# Altium footprint library VapeixS_LIB.PcbLib: 46 footprints (part 1 of 3)
Each footprint in its own frame and in the unit in brackets; x right, y up, seen from the top. Pads: shape width x height; smd on the part's side, far side on the other; paste and mask are expansions set on the pad; w line width, h text height; cw(c..) or ccw(c..) is an arc to the next point about the centre after c.
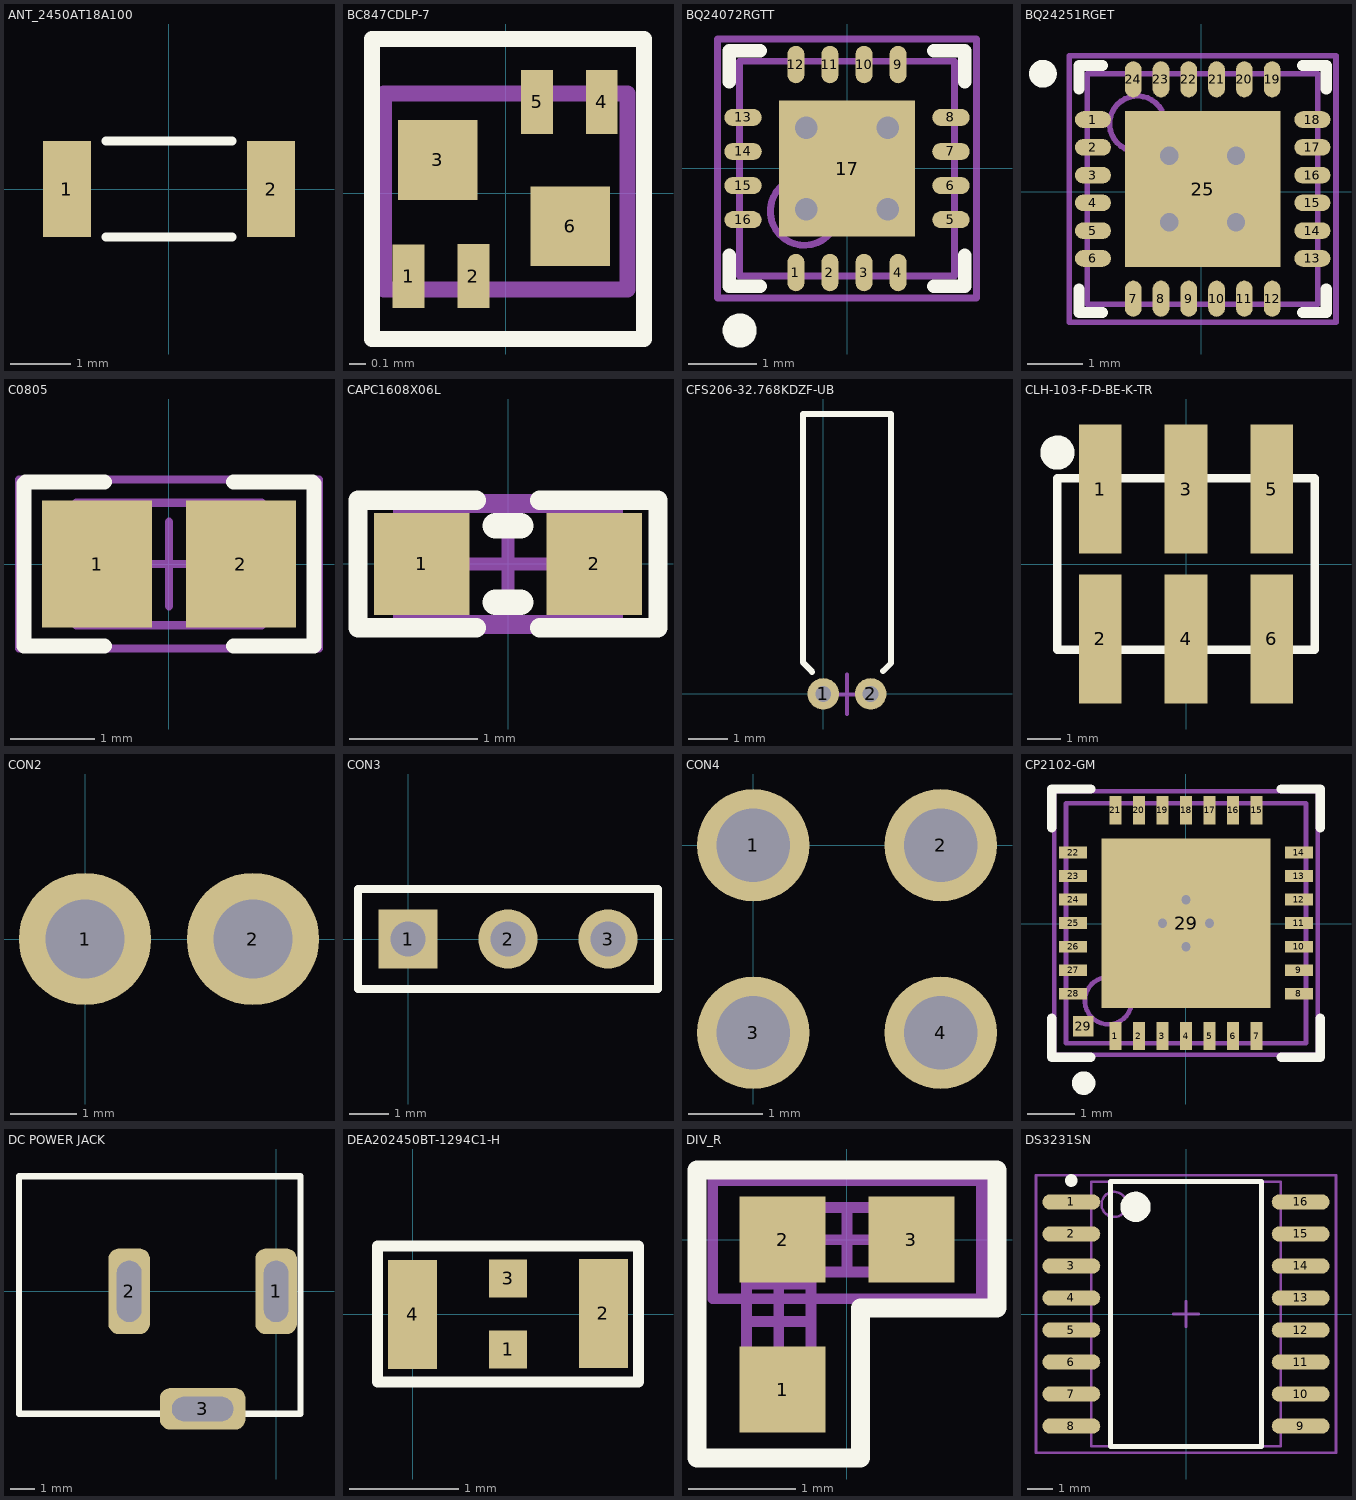
[diagram p0: the footprints below, top view; thin cyan lines are the x and y axes]

## ANT_2450AT18A100 [mm] "Mini 2.45 GHz Antenna"
pads (2):
  rect 0.8x1.6 smd paste+0 mask+0: 1(-1.7,0) 2(1.7,0)
Top Overlay:
  lines w0.15: -1.05,-0.8 1.05,-0.8 ; -1.05,0.8 1.05,0.8
3D body "User Library-2450AT18A100E.STEP": height 1.35, standoff -0.05, extent -1.65,-0.85 1.65,0.85

## BC847CDLP-7 [mm] "TRANS 2NPN 45V 0.1A 6DFN"
pads (6):
  rect 0.2x0.4 smd: 1(-0.609,-0.521) 2(-0.203,-0.521) 4(0.6,0.572) 5(0.196,0.572)
  rect 0.5x0.5 smd: 3(-0.426,0.208) 6(0.404,-0.208)
Top Overlay:
  lines w0.1: 0.859,0.965 -0.838,0.965 -0.838,-0.914 0.864,-0.914 ; 0.865,-0.914 0.865,0.965
Mechanical 15:
  lines w0.1: -0.763,-0.605 -0.763,0.622 0.761,0.622 0.761,-0.605 -0.763,-0.605
3D body: height 0.15, standoff 0.08, extent -0.681,0.573 -0.493,0.686
3D body: height 0.15, standoff 0.08, extent -0.366,0.573 -0.178,0.685
3D body: height 0.15, standoff 0.08, extent 0.465,-0.672 0.653,-0.56
3D body: height 0.15, standoff 0.08, extent 0.151,-0.672 0.339,-0.559
3D body: height 0.13, standoff 0, extent 0.501,0.61 0.701,0.691
3D body: height 0.13, standoff 0, extent 0.096,0.609 0.296,0.69
3D body: height 0.13, standoff 0, extent -0.303,-0.67 -0.103,-0.588
3D body: height 0.13, standoff 0, extent -0.709,-0.668 -0.509,-0.586
3D body: height 0.4, standoff 0, extent -0.787,-0.652 0.813,0.672

## BQ24072RGTT [mm] "TEXAS INSTRUMENTS - BQ24072RGTT - BATTERY CHARGER LI-ION, 1.5A, QFN-16"
pads (17):
  oval 0.25x0.55 smd: 1(-0.757,-1.527) 2(-0.257,-1.527) 3(0.243,-1.527) 4(0.743,-1.527) 9(0.743,1.523) 10(0.243,1.523) 11(-0.257,1.523) 12(-0.757,1.523)
  oval 0.55x0.25 smd: 5(1.518,-0.752) 6(1.518,-0.252) 7(1.518,0.248) 8(1.518,0.748) 13(-1.532,0.748) 14(-1.532,0.248) 15(-1.532,-0.252) 16(-1.532,-0.752)
  rect 2x2 smd: 17(-0.007,-0.002)
via 0.593,0.598 diameter 0.66 hole 0.33
via 0.593,-0.602 diameter 0.66 hole 0.33
via -0.607,0.598 diameter 0.66 hole 0.33
via -0.607,-0.602 diameter 0.66 hole 0.33
Top Overlay:
  circle w0.25: c-1.582,-2.377 r0.125
  lines w0.2: -1.732,-1.277 -1.732,-1.727 -1.282,-1.727 ; -1.732,1.273 -1.732,1.723 -1.282,1.723 ; 1.268,-1.727 1.718,-1.727 1.718,-1.277 ; 1.268,1.723 1.718,1.723 1.718,1.273
Mechanical 13:
  circle w0.1: c-0.632,-0.627 r0.5
  lines w0.1: -1.582,-1.577 -1.582,1.573 1.568,1.573 1.568,-1.577 -1.582,-1.577
Mechanical 15:
  lines w0.1: -0.507,-0.002 0.493,-0.002 ; -0.007,-0.502 -0.007,0.498 ; -1.907,-1.902 -1.907,1.898 1.893,1.898 1.893,-1.902 -1.907,-1.902
3D body "User Library-QFN-16.STEP": height 0.9, standoff 0, extent -1.51,-1.502 1.492,1.5

## BQ24251RGET [mm] "TEXAS INSTRUMENTS - BQ24251RGET - IC, BATT CHARGER, LI-ION, 2A, VQFN-24"
pads (25):
  oval 0.65x0.3 smd: 1(-1.947,1.299) 2(-1.947,0.799) 3(-1.947,0.299) 4(-1.947,-0.201) 5(-1.947,-0.701) 6(-1.947,-1.201) 13(2.003,-1.201) 14(2.003,-0.701) 15(2.003,-0.201) 16(2.003,0.299) 17(2.003,0.799) 18(2.003,1.299)
  oval 0.3x0.65 smd: 7(-1.222,-1.926) 8(-0.722,-1.926) 9(-0.222,-1.926) 10(0.278,-1.926) 11(0.778,-1.926) 12(1.278,-1.926) 19(1.278,2.024) 20(0.778,2.024) 21(0.278,2.024) 22(-0.222,2.024) 23(-0.722,2.024) 24(-1.222,2.024)
  rect 2.8x2.8 smd: 25(0.028,0.049)
via 0.628,-0.551 diameter 0.66 hole 0.33
via -0.572,-0.551 diameter 0.66 hole 0.33
via 0.628,0.649 diameter 0.66 hole 0.33
via -0.572,0.649 diameter 0.66 hole 0.33
Top Overlay:
  circle w0.25: c-2.847,2.124 r0.125
  lines w0.2: -2.197,-1.751 -2.197,-2.176 -1.772,-2.176 ; -2.197,1.849 -2.197,2.274 -1.772,2.274 ; 1.828,-2.176 2.253,-2.176 2.253,-1.751 ; 1.828,2.274 2.253,2.274 2.253,1.849
Mechanical 13:
  circle w0.1: c-1.147,1.224 r0.5
  lines w0.1: -2.047,-2.026 2.103,-2.026 2.103,2.124 -2.047,2.124 -2.047,-2.026
Mechanical 15:
  lines w0.1: -0.472,0.049 0.528,0.049 ; 0.028,-0.451 0.028,0.549 ; -2.372,-2.351 2.428,-2.351 2.428,2.449 -2.372,2.449 -2.372,-2.351
3D body "User Library-QFN 24 4x4.STEP": height 0.9, standoff 0, extent -1.974,-1.953 2.03,2.051

## C0805 [mm]
pads (2):
  rect 1.3x1.5 smd: 1(-0.85,0) 2(0.85,0)
Top Overlay:
  lines w0.178: -0.762,-0.968 -1.717,-0.968 -1.717,0.95 -1.699,0.968 -0.762,0.968 ; 0.762,-0.968 1.717,-0.968 1.717,0.95 1.699,0.968 0.762,0.968
Mechanical 5:
  lines w0.1: -1.775,-1 -1.775,1 1.775,1 1.775,-1 -1.775,-1
Mechanical 13:
  lines w0.1: -0.65,-0.725 -0.65,0.725 ; 0.65,-0.725 0.65,0.725 ; -1.1,-0.725 -1.1,0.725 1.1,0.725 1.1,-0.725 -1.1,-0.725
Mechanical 15:
  lines w0.1: -0.5,0 0.5,0 ; 0,-0.5 0,0.5 ; -1.775,-1 -1.775,1 1.775,1 1.775,-1 -1.775,-1
3D body "SW3dPS-0805 SMD Capacitor.STEP": height 0.78, standoff 0, extent -0.95,-0.625 1.05,0.625

## CAPC1608X06L [mm]
pads (2):
  rect 0.75x0.8 smd: 1(-0.675,0) 2(0.675,0)
Top Overlay:
  lines w0.152: -0.25,-0.5 -1.175,-0.5 -1.175,0.5 -0.25,0.5 ; 0.25,-0.5 1.175,-0.5 1.175,0.5 0.25,0.5
  lines w0.2: -0.1,-0.3 0.1,-0.3 ; -0.1,0.3 0.1,0.3
Mechanical 13:
  lines w0.1: -0.85,-0.45 -0.85,0.45 0.85,0.45 0.85,-0.45 -0.85,-0.45
Mechanical 15:
  lines w0.1: -0.45,0 0.45,0 ; 0,-0.45 0,0.45 ; -1.175,-0.5 1.175,-0.5 1.175,0.5 -1.175,0.5 -1.175,-0.5
3D body "User Library-Chip Capacitor 0603.step": height 0.8, standoff 0, extent -0.8,-0.43 0.8,0.43

## CFS206-32.768KDZF-UB [mm] "Crystals 32.768 KHz 12.5pF CYLINDER CRYSTAL"
pads (2):
  round 0.8 hole 0.4: 1(0,0) 2(1.2,0)
Top Overlay:
  lines w0.15: -0.282,0.56 -0.52,0.799 -0.52,7.1 1.722,7.1 1.722,0.785 1.519,0.582
Mechanical 15:
  lines w0.1: 0.1,-0.01 1.1,-0.01 ; 0.6,-0.51 0.6,0.49
3D body "User Library-DT-26-1.STEP": height 2, standoff -2, extent -0.4,-0.16 1.6,6.98

## CLH-103-F-D-BE-K-TR [mm] "SAMTEC - CLH-103-F-D-BE-K-TR - SOCKET, 2.54MM, SMT, 6WAY"
pads (6):
  rect 1.27x3.81 smd: 1(-2.54,2.234) 2(-2.54,-2.211) 3(0,2.234) 4(0,-2.211) 5(2.54,2.234) 6(2.54,-2.211)
Top Overlay:
  circle w0.508: c-3.81,3.314 r0.254
  lines w0.254: -3.81,-2.528 -3.81,2.552 3.81,2.552 3.81,-2.528 -3.81,-2.528
3D body "User Library-CLH-107-F-D-BE 2x3.STEP": height 3.56, standoff -0.05, extent -3.81,-3.543 3.81,3.567

## CON2 [mm]
pads (2):
  round 2 hole 1.2: 1(0,0) 2(2.54,0)

## CON3 [mm]
pads (3):
  rect 1.5x1.5 hole 0.9: 1(0,0)
  round 1.5 hole 0.9: 2(2.54,0) 3(5.08,0)
Top Overlay:
  lines w0.2: -1.27,-1.27 6.35,-1.27 6.35,1.27 -1.27,1.27 -1.27,-1.27
3D body "User Library-Header_Male_3Pin.STEP": height 8.54, standoff -3, extent -1.27,-1.245 6.35,1.245

## CON4 [mil]
pads (4):
  round 60 hole 39.37: 1(0,0) 2(100,0) 3(0,-100) 4(100,-100)

## CP2102-GM [mm] "SILICON LABS - CP2102-GM - USB-TO-UART BRIDGE, 3.6V, MLP-28"
pads (30):
  rect 0.25x0.6 smd paste-0.125 mask+0.051: 1(-1.496,-2.385) 2(-0.996,-2.385) 3(-0.496,-2.385) 4(0.004,-2.385) 5(0.504,-2.385) 6(1.004,-2.385) 7(1.504,-2.385) 15(1.504,2.415) 16(1.004,2.415) 17(0.504,2.415) 18(0.004,2.415) 19(-0.496,2.415) 20(-0.996,2.415) 21(-1.496,2.415)
  rect 0.6x0.25 smd paste-0.125 mask+0.051: 8(2.404,-1.485) 9(2.404,-0.985) 10(2.404,-0.485) 11(2.404,0.015) 12(2.404,0.515) 13(2.404,1.015) 14(2.404,1.515) 22(-2.396,1.515) 23(-2.396,1.015) 24(-2.396,0.515) 25(-2.396,0.015) 26(-2.396,-0.485) 27(-2.396,-0.985) 28(-2.396,-1.485)
  rect 0.435x0.435 smd paste-0.125 mask+0.051: 29(-2.18,-2.18)
  rect 3.6x3.6 smd paste-1.8 mask+0.051: 29(0.004,0.015)
via -0.496,0.015 diameter 0.5 hole 0.2
via 0.504,0.015 diameter 0.5 hole 0.2
via 0.004,0.515 diameter 0.5 hole 0.2
via 0.004,-0.485 diameter 0.5 hole 0.2
Top Overlay:
  circle w0.25: c-2.171,-3.385 r0.125
  lines w0.2: -2.846,-2.01 -2.846,-2.835 -2.021,-2.835 ; -2.846,2.04 -2.846,2.865 -2.021,2.865 ; 2.029,-2.835 2.854,-2.835 2.854,-2.01 ; 2.029,2.865 2.854,2.865 2.854,2.04
Top Paste:
  region: -1.371,-2.885 -1.371,-2.185 -1.621,-2.185 -1.621,-2.885
  region: -0.871,-2.885 -0.871,-2.185 -1.121,-2.185 -1.121,-2.885
  region: -0.371,-2.885 -0.371,-2.185 -0.621,-2.185 -0.621,-2.885
  region: 0.129,-2.885 0.129,-2.185 -0.121,-2.185 -0.121,-2.885
  region: 0.629,-2.885 0.629,-2.185 0.379,-2.185 0.379,-2.885
  region: 1.129,-2.885 1.129,-2.185 0.879,-2.185 0.879,-2.885
  region: 1.629,-2.885 1.629,-2.185 1.379,-2.185 1.379,-2.885
  region: 1.379,2.915 1.379,2.215 1.629,2.215 1.629,2.915
  region: 0.879,2.915 0.879,2.215 1.129,2.215 1.129,2.915
  region: 0.379,2.915 0.379,2.215 0.629,2.215 0.629,2.915
  region: -0.121,2.915 -0.121,2.215 0.129,2.215 0.129,2.915
  region: -0.621,2.915 -0.621,2.215 -0.371,2.215 -0.371,2.915
  region: -1.121,2.915 -1.121,2.215 -0.871,2.215 -0.871,2.915
  region: -1.621,2.915 -1.621,2.215 -1.371,2.215 -1.371,2.915
  rectangle: -2.896,1.39 -2.196,1.64
  rectangle: -2.896,0.89 -2.196,1.14
  rectangle: -2.896,0.39 -2.196,0.64
  rectangle: -2.896,-0.11 -2.196,0.14
  rectangle: -2.896,-0.61 -2.196,-0.36
  rectangle: -2.896,-1.11 -2.196,-0.86
  rectangle: -2.896,-1.61 -2.196,-1.36
  region: 2.904,1.64 2.204,1.64 2.204,1.39 2.904,1.39
  region: 2.904,1.14 2.204,1.14 2.204,0.89 2.904,0.89
  region: 2.904,0.64 2.204,0.64 2.204,0.39 2.904,0.39
  region: 2.904,0.14 2.204,0.14 2.204,-0.11 2.904,-0.11
  region: 2.904,-0.36 2.204,-0.36 2.204,-0.61 2.904,-0.61
  region: 2.904,-0.86 2.204,-0.86 2.204,-1.11 2.904,-1.11
  region: 2.904,-1.36 2.204,-1.36 2.204,-1.61 2.904,-1.61
  region: -0.146,0.165 -0.146,1.715 -1.696,1.715 -1.696,0.165
  region: -1.696,-0.135 -1.696,-1.685 -0.146,-1.685 -0.146,-0.135
  region: 0.154,-0.135 0.154,-1.685 1.704,-1.685 1.704,-0.135
  region: 1.704,0.165 1.704,1.715 0.154,1.715 0.154,0.165
Mechanical 13:
  circle w0.1: c-1.646,-1.635 r0.5
  lines w0.1: -2.546,-2.535 -2.546,2.565 2.554,2.565 2.554,-2.535 -2.546,-2.535
Mechanical 15:
  lines w0.1: -0.496,0.015 0.504,0.015 ; 0.004,-0.485 0.004,0.515 ; -2.796,-2.785 -2.796,2.815 2.804,2.815 2.804,-2.785 -2.796,-2.785
3D body "User Library-QFN28-0_5.STEP": height 1, standoff 0, extent -2.496,-2.485 2.504,2.515

## DC POWER JACK [mm] "Adafruit Accessories 2.1mm DC Barrel Jack Breadboard Friendly"
pads (3):
  rrect50% 1.7x3.5 hole 1 slot 2.5 at 90 deg: 1(0,0) 2(-6,0)
  rrect50% 3.5x1.7 hole 1 slot 2.5 at 0 deg: 3(-3,-4.8)
Top Overlay:
  lines w0.254: -10.5,-5 -10.5,4.7 1,4.7 1,-5 -10.5,-5
3D body "User Library-DC_Jack-1.STEP": height 11, standoff -3.5, extent -13.6,-4.9 0.8,4.6

## DEA202450BT-1294C1-H [mm] "FILTER BANDPASS WLAN&BLUETOOTH"
pads (4):
  rect 0.35x0.35 smd: 1(0.875,-0.32) 3(0.875,0.33)
  rect 0.45x1 smd: 2(1.75,0.01) 4(0,0)
Top Overlay:
  lines w0.1: -0.32,-0.619 -0.32,0.627 2.07,0.627 2.07,-0.619 -0.32,-0.619
3D body: height 0.5, standoff 0, extent -0.125,-0.53 1.875,0.535
3D body: height 0.52, standoff 0, extent 0.09,-0.18 0.5,0.24

## DIV_R [mm] "0402 x 2, Switch SMD"
pads (3):
  rect 0.8x0.8 smd: 1(-0.6,-1.397) 2(-0.6,0) 3(0.6,0)
Top Overlay:
  lines w0.178: 0.381,0.648 1.397,0.648 1.397,-0.635 0.127,-0.635 0.127,-2.032 -1.397,-2.032 -1.397,0.648 0.508,0.648
Mechanical 5:
  lines w0.1: -1.25,-0.55 1.25,-0.55 1.25,0.55 -1.25,0.55 -1.25,-0.55
Mechanical 13:
  lines w0.1: -0.935,-1.112 -0.335,-1.112 ; -0.935,-0.412 -0.335,-0.412 ; -0.35,-0.3 -0.35,0.3 ; 0.35,-0.3 0.35,0.3 ; -0.935,-1.312 -0.335,-1.312 -0.335,-0.212 -0.935,-0.212 -0.935,-1.312 ; -0.55,-0.3 0.55,-0.3 0.55,0.3 -0.55,0.3 -0.55,-0.3
Mechanical 15:
  lines w0.1: -0.935,-0.762 -0.335,-0.762 ; -0.635,-1.062 -0.635,-0.462 ; -0.3,0 0.3,0 ; 0,-0.3 0,0.3 ; 1.27,-0.55 1.27,0.55 ; 1.397,-0.55 -1.25,-0.55 -1.25,0.55 1.397,0.55
3D body: height 0.6, standoff 0, extent -0.934,-1.311 -0.335,-1.112
3D body: height 0.6, standoff 0, extent -0.934,-1.111 -0.335,-0.412
3D body: height 0.6, standoff 0, extent -0.934,-0.411 -0.335,-0.212
3D body: height 0.6, standoff 0, extent 0.351,-0.299 0.55,0.3
3D body: height 0.6, standoff 0, extent -0.349,-0.299 0.35,0.3
3D body: height 0.6, standoff 0, extent -0.549,-0.299 -0.35,0.3

## DS3231SN [mm] "IC RTC CLK/CALENDAR I2C 16-SOIC"
pads (16):
  oval 2.3x0.6 smd: 1(-4.563,4.445) 2(-4.563,3.175) 3(-4.563,1.905) 4(-4.563,0.635) 5(-4.563,-0.635) 6(-4.563,-1.905) 7(-4.563,-3.175) 8(-4.563,-4.445) 9(4.537,-4.445) 10(4.537,-3.175) 11(4.537,-1.905) 12(4.537,-0.635) 13(4.537,0.635) 14(4.537,1.905) 15(4.537,3.175) 16(4.537,4.445)
Top Overlay:
  circle w0.25: c-4.563,5.295 r0.125
  circle w0.6: c-2.013,4.25 r0.3
  lines w0.2: -3.013,-5.25 -3.013,5.25 2.987,5.25 2.987,-5.25 -3.013,-5.25
Mechanical 13:
  circle w0.1: c-2.863,4.35 r0.5
  lines w0.1: -3.763,-5.25 -3.763,5.25 3.737,5.25 3.737,-5.25 -3.763,-5.25
Mechanical 15:
  lines w0.1: -0.513,0 0.487,0 ; -0.013,-0.5 -0.013,0.5 ; -5.963,-5.5 -5.963,5.5 5.937,5.5 5.937,-5.5 -5.963,-5.5
3D body "User Library-SO-16W.STEP": height 2.48, standoff 0, extent -5.168,-5.165 5.142,5.165